# Altium footprint library PCB - CONNECTOR - AMPHENOL - AMPHENOL 901-10510-1.PcbLib: 1 footprints
Each footprint in its own frame and in the unit in brackets; x right, y up, seen from the top. Pads: shape width x height; smd on the part's side, far side on the other; paste and mask are expansions set on the pad; w line width, h text height; cw(c..) or ccw(c..) is an arc to the next point about the centre after c.
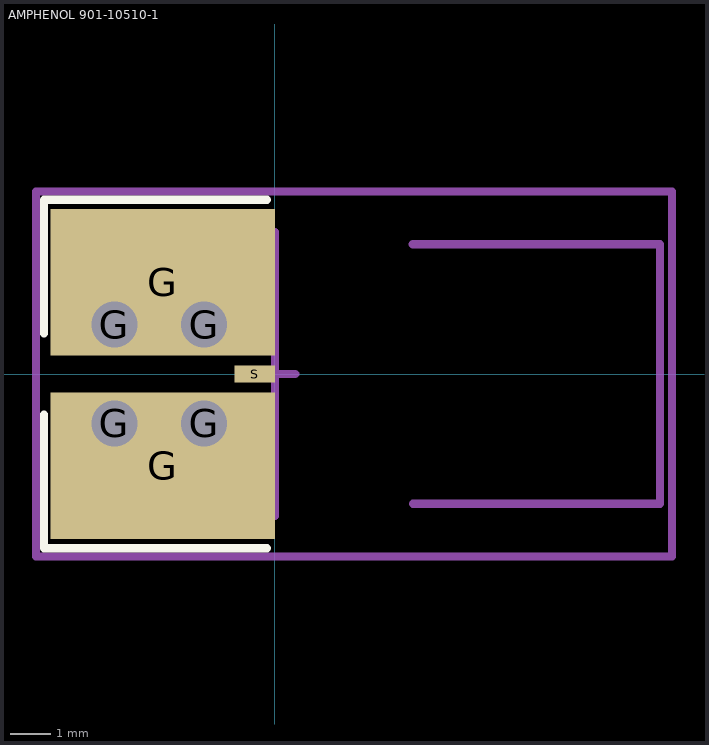
[diagram p0: the footprint, top view; thin cyan lines are the x and y axes]

## AMPHENOL 901-10510-1 [mm] "High Freq End Launch SMA Jack PC Mount"
height 3.22
pads (7):
  oval 2x1.5 hole 1.14: G(-3.96,-1.22) G(-3.96,1.22) G(-1.75,-1.22) G(-1.75,1.22)
  rect 5.54x3.61 smd mask+0: G(-2.77,-2.26) G(-2.77,2.26)
  rect 1x0.41 smd mask+0: S(-0.5,0)
Top Overlay:
  lines w0.2: -5.7,-1 -5.7,-4.3 -0.2,-4.3 ; -5.7,1 -5.7,4.3 -0.2,4.3
Top Assembly:
  lines w0.2: -0.5,0 0.5,0 ; 0,-3.5 0,3.5 ; 0,-0.5 0,0.5 ; 3.4,3.2 9.5,3.2 9.5,-3.2 3.401,-3.2
Top Courtyard (Mech15):
  lines w0.2: -5.9,-4.5 -5.9,4.5 9.8,4.5 9.8,-4.5 -5.9,-4.5
3D body "Amphenol 901-10510-1.step": height 3.3, standoff -3.05, extent -4.55,-3.175 9.53,3.175